# Altium footprint library OPLGA-4.PcbLib: 1 footprints
Each footprint in its own frame and in the unit in brackets; x right, y up, seen from the top. Pads: shape width x height; smd on the part's side, far side on the other; paste and mask are expansions set on the pad; w line width, h text height; cw(c..) or ccw(c..) is an arc to the next point about the centre after c.
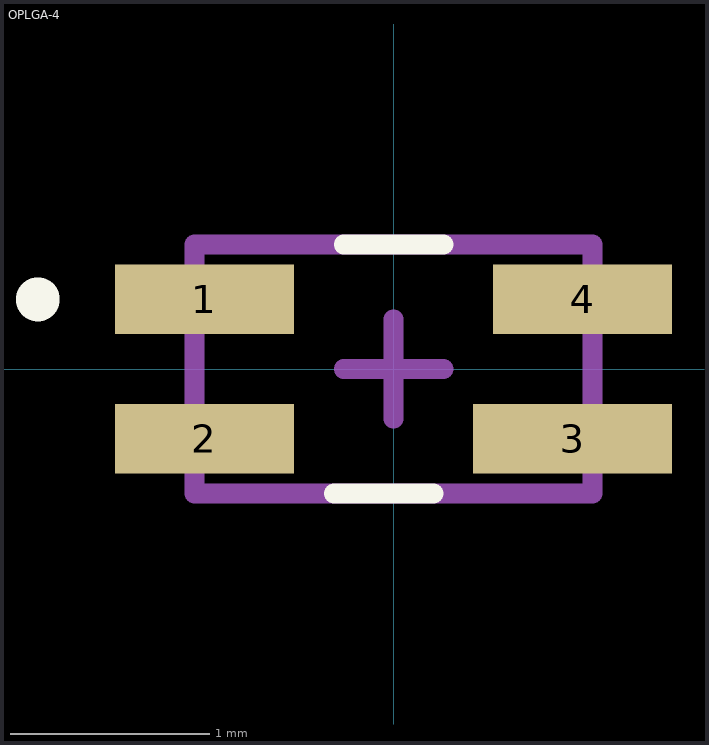
[diagram p0: the footprint, top view; thin cyan lines are the x and y axes]

## OPLGA-4 [mm]
pads (4):
  rect 0.9x0.35 smd mask+0.051: 1(-0.95,0.35) 2(-0.95,-0.35) 4(0.95,0.35)
  rect 1x0.35 smd mask+0.051: 3(0.9,-0.35)
Top Overlay:
  circle w0.2: c-1.787,0.35 r0.01
  lines w0.1: -0.3,-0.625 0.2,-0.625 ; -0.25,0.625 0.25,0.625
Mechanical 13:
  lines w0.1: -1,-0.625 1,-0.625 1,0.625 0,0.625 -1,0.625 -1,-0.625
Mechanical 15:
  lines w0.1: -0.25,0 0,0 ; 0,-0.25 0,0 ; 0,0.25 0,0 ; 0.25,0 0,0
3D body "4-SMD.stp": height 1, standoff 0, extent -1,-0.625 1,0.625